# Altium footprint library Connector_PinHeader_1.00mm.PcbLib: 278 footprints (part 13 of 18)
Each footprint in its own frame and in the unit in brackets; x right, y up, seen from the top. Pads: shape width x height; smd on the part's side, far side on the other; paste and mask are expansions set on the pad; w line width, h text height; cw(c..) or ccw(c..) is an arc to the next point about the centre after c.
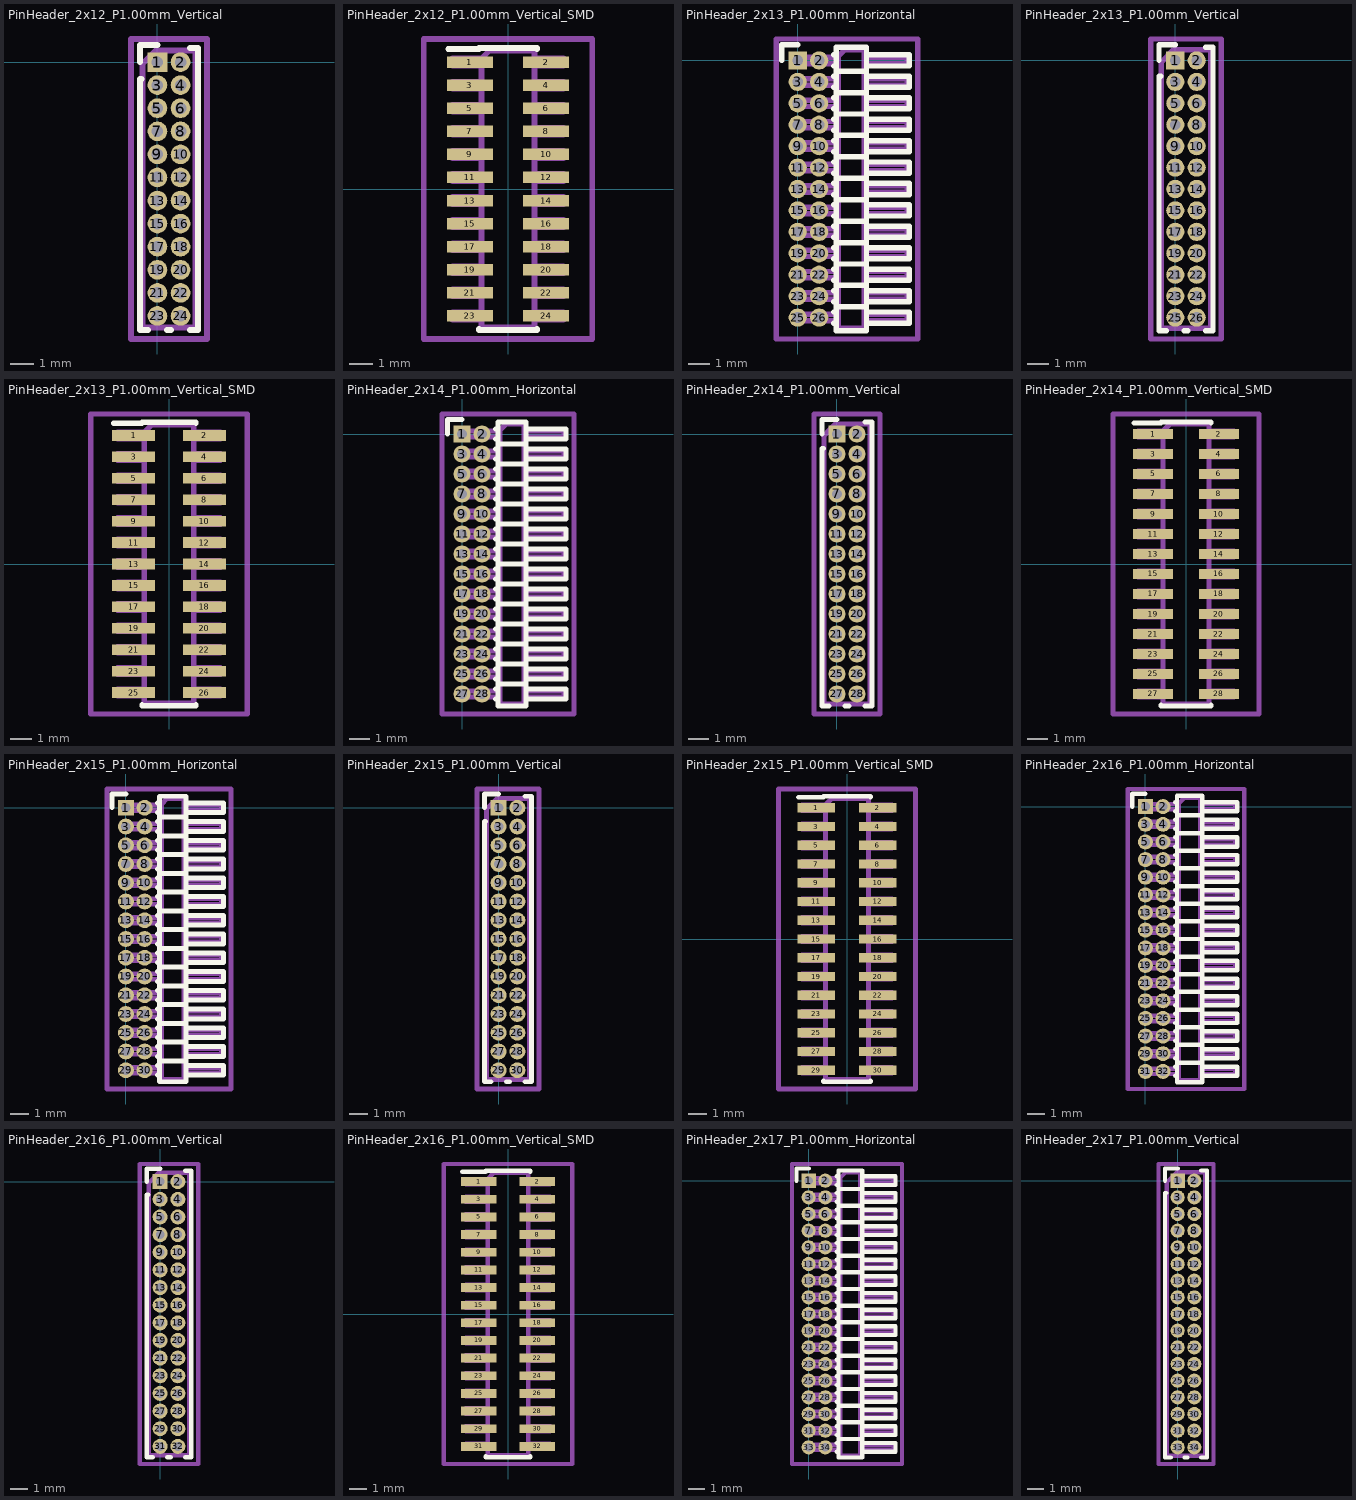
[diagram p12: the footprints below, top view; thin cyan lines are the x and y axes]

## PinHeader_2x12_P1.00mm_Vertical [mm]
pads (24):
  rect 0.85x0.85 hole 0.5: 1(0,0)
  round 0.85 hole 0.5: 2(1,0) 3(0,-1) 4(1,-1) 5(0,-2) 6(1,-2) 7(0,-3) 8(1,-3) 9(0,-4) 10(1,-4) 11(0,-5) 12(1,-5) 13(0,-6) 14(1,-6) 15(0,-7) 16(1,-7) 17(0,-8) 18(1,-8) 19(0,-9) 20(1,-9) 21(0,-10) 22(1,-10) 23(0,-11) 24(1,-11)
F.SilkS:
  lines w0.254: -0.76,0 -0.76,0.735 0,0.735 ; -0.686,-0.735 -0.76,-0.735 -0.76,-11.61 -0.41,-11.61 ; 0.41,-11.61 0.59,-11.61 ; 1.41,-11.61 1.76,-11.61 1.76,0.61 1.41,0.61
Top Assembly:
  lines w0.254: -0.65,-11.5 1.65,-11.5 1.65,0.5 -0.075,0.5 -0.65,-0.075 -0.65,-11.5
  text "'.Designator'" at 1.34,-9.547 h1
Top Courtyard:
  lines w0.254: -1.15,-12 2.15,-12 2.15,1 -1.15,1 -1.15,-12
Top Designator:
  text ".Designator" at -7.118,-6.008 h1.52

## PinHeader_2x12_P1.00mm_Vertical_SMD [mm]
pads (24):
  rect 2x0.5 smd: 1(-1.65,5.5) 2(1.65,5.5) 3(-1.65,4.5) 4(1.65,4.5) 5(-1.65,3.5) 6(1.65,3.5) 7(-1.65,2.5) 8(1.65,2.5) 9(-1.65,1.5) 10(1.65,1.5) 11(-1.65,0.5) 12(1.65,0.5) 13(-1.65,-0.5) 14(1.65,-0.5) 15(-1.65,-1.5) 16(1.65,-1.5) 17(-1.65,-2.5) 18(1.65,-2.5) 19(-1.65,-3.5) 20(1.65,-3.5) 21(-1.65,-4.5) 22(1.65,-4.5) 23(-1.65,-5.5) 24(1.65,-5.5)
F.SilkS:
  lines w0.254: -2.59,6.06 -1.26,6.06 -1.26,6.11 1.26,6.11 1.26,6.06 ; -1.26,-6.06 -1.26,-6.11 1.26,-6.11 1.26,-6.06
Top Assembly:
  lines w0.254: -1.15,-5.65 -2.4,-5.65 -2.4,-5.35 -1.15,-5.35 ; -1.15,-4.65 -2.4,-4.65 -2.4,-4.35 -1.15,-4.35 ; -1.15,-3.65 -2.4,-3.65 -2.4,-3.35 -1.15,-3.35 ; -1.15,-2.65 -2.4,-2.65 -2.4,-2.35 -1.15,-2.35 ; -1.15,-1.65 -2.4,-1.65 -2.4,-1.35 -1.15,-1.35 ; -1.15,-0.65 -2.4,-0.65 -2.4,-0.35 -1.15,-0.35 ; -1.15,0.35 -2.4,0.35 -2.4,0.65 -1.15,0.65 ; -1.15,1.35 -2.4,1.35 -2.4,1.65 -1.15,1.65 ; -1.15,2.35 -2.4,2.35 -2.4,2.65 -1.15,2.65 ; -1.15,3.35 -2.4,3.35 -2.4,3.65 -1.15,3.65 ; -1.15,4.35 -2.4,4.35 -2.4,4.65 -1.15,4.65 ; -1.15,5.35 -2.4,5.35 -2.4,5.65 -1.15,5.65 ; 1.15,-5.65 2.4,-5.65 2.4,-5.35 1.15,-5.35 ; 1.15,-4.65 2.4,-4.65 2.4,-4.35 1.15,-4.35 ; 1.15,-3.65 2.4,-3.65 2.4,-3.35 1.15,-3.35 ; 1.15,-2.65 2.4,-2.65 2.4,-2.35 1.15,-2.35 ; 1.15,-1.65 2.4,-1.65 2.4,-1.35 1.15,-1.35 ; 1.15,-0.65 2.4,-0.65 2.4,-0.35 1.15,-0.35 ; 1.15,0.35 2.4,0.35 2.4,0.65 1.15,0.65 ; 1.15,1.35 2.4,1.35 2.4,1.65 1.15,1.65 ; 1.15,2.35 2.4,2.35 2.4,2.65 1.15,2.65 ; 1.15,3.35 2.4,3.35 2.4,3.65 1.15,3.65 ; 1.15,4.35 2.4,4.35 2.4,4.65 1.15,4.65 ; 1.15,5.35 2.4,5.35 2.4,5.65 1.15,5.65 ; -1.15,5.65 -1.15,-6 1.15,-6 1.15,6 -0.8,6 -1.15,5.65
  text "'.Designator'" at 0.84,-4.047 h1
Top Courtyard:
  lines w0.254: -3.65,-6.5 3.65,-6.5 3.65,6.5 -3.65,6.5 -3.65,-6.5
Top Designator:
  text ".Designator" at -7.618,-0.508 h1.52

## PinHeader_2x13_P1.00mm_Horizontal [mm]
pads (26):
  rect 0.85x0.85 hole 0.5: 1(0,0)
  round 0.85 hole 0.5: 2(1,0) 3(0,-1) 4(1,-1) 5(0,-2) 6(1,-2) 7(0,-3) 8(1,-3) 9(0,-4) 10(1,-4) 11(0,-5) 12(1,-5) 13(0,-6) 14(1,-6) 15(0,-7) 16(1,-7) 17(0,-8) 18(1,-8) 19(0,-9) 20(1,-9) 21(0,-10) 22(1,-10) 23(0,-11) 24(1,-11) 25(0,-12) 26(1,-12)
F.SilkS:
  lines w0.254: -0.735,0 -0.735,0.735 0,0.735 ; 1.687,-12.26 1.79,-12.26 ; 1.687,-11.74 1.79,-11.74 ; 1.687,-11.26 1.79,-11.26 ; 1.687,-10.74 1.79,-10.74 ; 1.687,-10.26 1.79,-10.26 ; 1.687,-9.74 1.79,-9.74 ; 1.687,-9.26 1.79,-9.26 ; 1.687,-8.74 1.79,-8.74 ; 1.687,-8.26 1.79,-8.26 ; 1.687,-7.74 1.79,-7.74 ; 1.687,-7.26 1.79,-7.26 ; 1.687,-6.74 1.79,-6.74 ; 1.687,-6.26 1.79,-6.26 ; 1.687,-5.74 1.79,-5.74 ; 1.687,-5.26 1.79,-5.26 ; 1.687,-4.74 1.79,-4.74 ; 1.687,-4.26 1.79,-4.26 ; 1.687,-3.74 1.79,-3.74 ; 1.687,-3.26 1.79,-3.26 ; 1.687,-2.74 1.79,-2.74 ; 1.687,-2.26 1.79,-2.26 ; 1.687,-1.74 1.79,-1.74 ; 1.687,-1.26 1.79,-1.26 ; 1.687,-0.74 1.79,-0.74 ; 1.687,-0.26 1.79,-0.26 ; 1.687,0.26 1.79,0.26 ; 1.79,-11.5 3.21,-11.5 ; 1.79,-10.5 3.21,-10.5 ; 1.79,-9.5 3.21,-9.5 ; 1.79,-8.5 3.21,-8.5 ; 1.79,-7.5 3.21,-7.5 ; 1.79,-6.5 3.21,-6.5 ; 1.79,-5.5 3.21,-5.5 ; 1.79,-4.5 3.21,-4.5 ; 1.79,-3.5 3.21,-3.5 ; 1.79,-2.5 3.21,-2.5 ; 1.79,-1.5 3.21,-1.5 ; 1.79,-0.5 3.21,-0.5 ; 3.21,-12.26 5.21,-12.26 5.21,-11.74 3.21,-11.74 ; 3.21,-11.26 5.21,-11.26 5.21,-10.74 3.21,-10.74 ; 3.21,-10.26 5.21,-10.26 5.21,-9.74 3.21,-9.74 ; 3.21,-9.26 5.21,-9.26 5.21,-8.74 3.21,-8.74 ; 3.21,-8.26 5.21,-8.26 5.21,-7.74 3.21,-7.74 ; 3.21,-7.26 5.21,-7.26 5.21,-6.74 3.21,-6.74 ; 3.21,-6.26 5.21,-6.26 5.21,-5.74 3.21,-5.74 ; 3.21,-5.26 5.21,-5.26 5.21,-4.74 3.21,-4.74 ; 3.21,-4.26 5.21,-4.26 5.21,-3.74 3.21,-3.74 ; 3.21,-3.26 5.21,-3.26 5.21,-2.74 3.21,-2.74 ; 3.21,-2.26 5.21,-2.26 5.21,-1.74 3.21,-1.74 ; 3.21,-1.26 5.21,-1.26 5.21,-0.74 3.21,-0.74 ; 1.79,-12.61 3.21,-12.61 3.21,0.61 1.79,0.61 1.79,-12.61 ; 3.21,-0.26 5.21,-0.26 5.21,0.26 3.21,0.26 3.21,-0.26
Top Assembly:
  lines w0.254: 1.9,-12.15 -0.15,-12.15 -0.15,-11.85 1.9,-11.85 ; 1.9,-11.15 -0.15,-11.15 -0.15,-10.85 1.9,-10.85 ; 1.9,-10.15 -0.15,-10.15 -0.15,-9.85 1.9,-9.85 ; 1.9,-9.15 -0.15,-9.15 -0.15,-8.85 1.9,-8.85 ; 1.9,-8.15 -0.15,-8.15 -0.15,-7.85 1.9,-7.85 ; 1.9,-7.15 -0.15,-7.15 -0.15,-6.85 1.9,-6.85 ; 1.9,-6.15 -0.15,-6.15 -0.15,-5.85 1.9,-5.85 ; 1.9,-5.15 -0.15,-5.15 -0.15,-4.85 1.9,-4.85 ; 1.9,-4.15 -0.15,-4.15 -0.15,-3.85 1.9,-3.85 ; 1.9,-3.15 -0.15,-3.15 -0.15,-2.85 1.9,-2.85 ; 1.9,-2.15 -0.15,-2.15 -0.15,-1.85 1.9,-1.85 ; 1.9,-1.15 -0.15,-1.15 -0.15,-0.85 1.9,-0.85 ; 1.9,-0.15 -0.15,-0.15 -0.15,0.15 1.9,0.15 ; 3.1,-12.15 5.1,-12.15 5.1,-11.85 3.1,-11.85 ; 3.1,-11.15 5.1,-11.15 5.1,-10.85 3.1,-10.85 ; 3.1,-10.15 5.1,-10.15 5.1,-9.85 3.1,-9.85 ; 3.1,-9.15 5.1,-9.15 5.1,-8.85 3.1,-8.85 ; 3.1,-8.15 5.1,-8.15 5.1,-7.85 3.1,-7.85 ; 3.1,-7.15 5.1,-7.15 5.1,-6.85 3.1,-6.85 ; 3.1,-6.15 5.1,-6.15 5.1,-5.85 3.1,-5.85 ; 3.1,-5.15 5.1,-5.15 5.1,-4.85 3.1,-4.85 ; 3.1,-4.15 5.1,-4.15 5.1,-3.85 3.1,-3.85 ; 3.1,-3.15 5.1,-3.15 5.1,-2.85 3.1,-2.85 ; 3.1,-2.15 5.1,-2.15 5.1,-1.85 3.1,-1.85 ; 3.1,-1.15 5.1,-1.15 5.1,-0.85 3.1,-0.85 ; 3.1,-0.15 5.1,-0.15 5.1,0.15 3.1,0.15 ; 1.9,-12.5 3.1,-12.5 3.1,0.5 2.2,0.5 1.9,0.2 1.9,-12.5
  text "'.Designator'" at 3.105,-8.914 h0.72
Top Courtyard:
  lines w0.254: -1,-13 5.6,-13 5.6,1 -1,1 -1,-13
Top Designator:
  text ".Designator" at -5.318,-6.508 h1.52

## PinHeader_2x13_P1.00mm_Vertical [mm]
pads (26):
  rect 0.85x0.85 hole 0.5: 1(0,0)
  round 0.85 hole 0.5: 2(1,0) 3(0,-1) 4(1,-1) 5(0,-2) 6(1,-2) 7(0,-3) 8(1,-3) 9(0,-4) 10(1,-4) 11(0,-5) 12(1,-5) 13(0,-6) 14(1,-6) 15(0,-7) 16(1,-7) 17(0,-8) 18(1,-8) 19(0,-9) 20(1,-9) 21(0,-10) 22(1,-10) 23(0,-11) 24(1,-11) 25(0,-12) 26(1,-12)
F.SilkS:
  lines w0.254: -0.76,0 -0.76,0.735 0,0.735 ; -0.686,-0.735 -0.76,-0.735 -0.76,-12.61 -0.41,-12.61 ; 0.41,-12.61 0.59,-12.61 ; 1.41,-12.61 1.76,-12.61 1.76,0.61 1.41,0.61
Top Assembly:
  lines w0.254: -0.65,-12.5 1.65,-12.5 1.65,0.5 -0.075,0.5 -0.65,-0.075 -0.65,-12.5
  text "'.Designator'" at 1.34,-10.047 h1
Top Courtyard:
  lines w0.254: -1.15,-13 2.15,-13 2.15,1 -1.15,1 -1.15,-13
Top Designator:
  text ".Designator" at -7.118,-6.508 h1.52

## PinHeader_2x13_P1.00mm_Vertical_SMD [mm]
pads (26):
  rect 2x0.5 smd: 1(-1.65,6) 2(1.65,6) 3(-1.65,5) 4(1.65,5) 5(-1.65,4) 6(1.65,4) 7(-1.65,3) 8(1.65,3) 9(-1.65,2) 10(1.65,2) 11(-1.65,1) 12(1.65,1) 13(-1.65,0) 14(1.65,0) 15(-1.65,-1) 16(1.65,-1) 17(-1.65,-2) 18(1.65,-2) 19(-1.65,-3) 20(1.65,-3) 21(-1.65,-4) 22(1.65,-4) 23(-1.65,-5) 24(1.65,-5) 25(-1.65,-6) 26(1.65,-6)
F.SilkS:
  lines w0.254: -2.59,6.56 -1.26,6.56 -1.26,6.61 1.26,6.61 1.26,6.56 ; -1.26,-6.56 -1.26,-6.61 1.26,-6.61 1.26,-6.56
Top Assembly:
  lines w0.254: -1.15,-6.15 -2.4,-6.15 -2.4,-5.85 -1.15,-5.85 ; -1.15,-5.15 -2.4,-5.15 -2.4,-4.85 -1.15,-4.85 ; -1.15,-4.15 -2.4,-4.15 -2.4,-3.85 -1.15,-3.85 ; -1.15,-3.15 -2.4,-3.15 -2.4,-2.85 -1.15,-2.85 ; -1.15,-2.15 -2.4,-2.15 -2.4,-1.85 -1.15,-1.85 ; -1.15,-1.15 -2.4,-1.15 -2.4,-0.85 -1.15,-0.85 ; -1.15,-0.15 -2.4,-0.15 -2.4,0.15 -1.15,0.15 ; -1.15,0.85 -2.4,0.85 -2.4,1.15 -1.15,1.15 ; -1.15,1.85 -2.4,1.85 -2.4,2.15 -1.15,2.15 ; -1.15,2.85 -2.4,2.85 -2.4,3.15 -1.15,3.15 ; -1.15,3.85 -2.4,3.85 -2.4,4.15 -1.15,4.15 ; -1.15,4.85 -2.4,4.85 -2.4,5.15 -1.15,5.15 ; -1.15,5.85 -2.4,5.85 -2.4,6.15 -1.15,6.15 ; 1.15,-6.15 2.4,-6.15 2.4,-5.85 1.15,-5.85 ; 1.15,-5.15 2.4,-5.15 2.4,-4.85 1.15,-4.85 ; 1.15,-4.15 2.4,-4.15 2.4,-3.85 1.15,-3.85 ; 1.15,-3.15 2.4,-3.15 2.4,-2.85 1.15,-2.85 ; 1.15,-2.15 2.4,-2.15 2.4,-1.85 1.15,-1.85 ; 1.15,-1.15 2.4,-1.15 2.4,-0.85 1.15,-0.85 ; 1.15,-0.15 2.4,-0.15 2.4,0.15 1.15,0.15 ; 1.15,0.85 2.4,0.85 2.4,1.15 1.15,1.15 ; 1.15,1.85 2.4,1.85 2.4,2.15 1.15,2.15 ; 1.15,2.85 2.4,2.85 2.4,3.15 1.15,3.15 ; 1.15,3.85 2.4,3.85 2.4,4.15 1.15,4.15 ; 1.15,4.85 2.4,4.85 2.4,5.15 1.15,5.15 ; 1.15,5.85 2.4,5.85 2.4,6.15 1.15,6.15 ; -1.15,6.15 -1.15,-6.5 1.15,-6.5 1.15,6.5 -0.8,6.5 -1.15,6.15
  text "'.Designator'" at 0.84,-4.047 h1
Top Courtyard:
  lines w0.254: -3.65,-7 3.65,-7 3.65,7 -3.65,7 -3.65,-7
Top Designator:
  text ".Designator" at -7.618,-0.508 h1.52

## PinHeader_2x14_P1.00mm_Horizontal [mm]
pads (28):
  rect 0.85x0.85 hole 0.5: 1(0,0)
  round 0.85 hole 0.5: 2(1,0) 3(0,-1) 4(1,-1) 5(0,-2) 6(1,-2) 7(0,-3) 8(1,-3) 9(0,-4) 10(1,-4) 11(0,-5) 12(1,-5) 13(0,-6) 14(1,-6) 15(0,-7) 16(1,-7) 17(0,-8) 18(1,-8) 19(0,-9) 20(1,-9) 21(0,-10) 22(1,-10) 23(0,-11) 24(1,-11) 25(0,-12) 26(1,-12) 27(0,-13) 28(1,-13)
F.SilkS:
  lines w0.254: -0.735,0 -0.735,0.735 0,0.735 ; 1.687,-13.26 1.79,-13.26 ; 1.687,-12.74 1.79,-12.74 ; 1.687,-12.26 1.79,-12.26 ; 1.687,-11.74 1.79,-11.74 ; 1.687,-11.26 1.79,-11.26 ; 1.687,-10.74 1.79,-10.74 ; 1.687,-10.26 1.79,-10.26 ; 1.687,-9.74 1.79,-9.74 ; 1.687,-9.26 1.79,-9.26 ; 1.687,-8.74 1.79,-8.74 ; 1.687,-8.26 1.79,-8.26 ; 1.687,-7.74 1.79,-7.74 ; 1.687,-7.26 1.79,-7.26 ; 1.687,-6.74 1.79,-6.74 ; 1.687,-6.26 1.79,-6.26 ; 1.687,-5.74 1.79,-5.74 ; 1.687,-5.26 1.79,-5.26 ; 1.687,-4.74 1.79,-4.74 ; 1.687,-4.26 1.79,-4.26 ; 1.687,-3.74 1.79,-3.74 ; 1.687,-3.26 1.79,-3.26 ; 1.687,-2.74 1.79,-2.74 ; 1.687,-2.26 1.79,-2.26 ; 1.687,-1.74 1.79,-1.74 ; 1.687,-1.26 1.79,-1.26 ; 1.687,-0.74 1.79,-0.74 ; 1.687,-0.26 1.79,-0.26 ; 1.687,0.26 1.79,0.26 ; 1.79,-12.5 3.21,-12.5 ; 1.79,-11.5 3.21,-11.5 ; 1.79,-10.5 3.21,-10.5 ; 1.79,-9.5 3.21,-9.5 ; 1.79,-8.5 3.21,-8.5 ; 1.79,-7.5 3.21,-7.5 ; 1.79,-6.5 3.21,-6.5 ; 1.79,-5.5 3.21,-5.5 ; 1.79,-4.5 3.21,-4.5 ; 1.79,-3.5 3.21,-3.5 ; 1.79,-2.5 3.21,-2.5 ; 1.79,-1.5 3.21,-1.5 ; 1.79,-0.5 3.21,-0.5 ; 3.21,-13.26 5.21,-13.26 5.21,-12.74 3.21,-12.74 ; 3.21,-12.26 5.21,-12.26 5.21,-11.74 3.21,-11.74 ; 3.21,-11.26 5.21,-11.26 5.21,-10.74 3.21,-10.74 ; 3.21,-10.26 5.21,-10.26 5.21,-9.74 3.21,-9.74 ; 3.21,-9.26 5.21,-9.26 5.21,-8.74 3.21,-8.74 ; 3.21,-8.26 5.21,-8.26 5.21,-7.74 3.21,-7.74 ; 3.21,-7.26 5.21,-7.26 5.21,-6.74 3.21,-6.74 ; 3.21,-6.26 5.21,-6.26 5.21,-5.74 3.21,-5.74 ; 3.21,-5.26 5.21,-5.26 5.21,-4.74 3.21,-4.74 ; 3.21,-4.26 5.21,-4.26 5.21,-3.74 3.21,-3.74 ; 3.21,-3.26 5.21,-3.26 5.21,-2.74 3.21,-2.74 ; 3.21,-2.26 5.21,-2.26 5.21,-1.74 3.21,-1.74 ; 3.21,-1.26 5.21,-1.26 5.21,-0.74 3.21,-0.74 ; 1.79,-13.61 3.21,-13.61 3.21,0.61 1.79,0.61 1.79,-13.61 ; 3.21,-0.26 5.21,-0.26 5.21,0.26 3.21,0.26 3.21,-0.26
Top Assembly:
  lines w0.254: 1.9,-13.15 -0.15,-13.15 -0.15,-12.85 1.9,-12.85 ; 1.9,-12.15 -0.15,-12.15 -0.15,-11.85 1.9,-11.85 ; 1.9,-11.15 -0.15,-11.15 -0.15,-10.85 1.9,-10.85 ; 1.9,-10.15 -0.15,-10.15 -0.15,-9.85 1.9,-9.85 ; 1.9,-9.15 -0.15,-9.15 -0.15,-8.85 1.9,-8.85 ; 1.9,-8.15 -0.15,-8.15 -0.15,-7.85 1.9,-7.85 ; 1.9,-7.15 -0.15,-7.15 -0.15,-6.85 1.9,-6.85 ; 1.9,-6.15 -0.15,-6.15 -0.15,-5.85 1.9,-5.85 ; 1.9,-5.15 -0.15,-5.15 -0.15,-4.85 1.9,-4.85 ; 1.9,-4.15 -0.15,-4.15 -0.15,-3.85 1.9,-3.85 ; 1.9,-3.15 -0.15,-3.15 -0.15,-2.85 1.9,-2.85 ; 1.9,-2.15 -0.15,-2.15 -0.15,-1.85 1.9,-1.85 ; 1.9,-1.15 -0.15,-1.15 -0.15,-0.85 1.9,-0.85 ; 1.9,-0.15 -0.15,-0.15 -0.15,0.15 1.9,0.15 ; 3.1,-13.15 5.1,-13.15 5.1,-12.85 3.1,-12.85 ; 3.1,-12.15 5.1,-12.15 5.1,-11.85 3.1,-11.85 ; 3.1,-11.15 5.1,-11.15 5.1,-10.85 3.1,-10.85 ; 3.1,-10.15 5.1,-10.15 5.1,-9.85 3.1,-9.85 ; 3.1,-9.15 5.1,-9.15 5.1,-8.85 3.1,-8.85 ; 3.1,-8.15 5.1,-8.15 5.1,-7.85 3.1,-7.85 ; 3.1,-7.15 5.1,-7.15 5.1,-6.85 3.1,-6.85 ; 3.1,-6.15 5.1,-6.15 5.1,-5.85 3.1,-5.85 ; 3.1,-5.15 5.1,-5.15 5.1,-4.85 3.1,-4.85 ; 3.1,-4.15 5.1,-4.15 5.1,-3.85 3.1,-3.85 ; 3.1,-3.15 5.1,-3.15 5.1,-2.85 3.1,-2.85 ; 3.1,-2.15 5.1,-2.15 5.1,-1.85 3.1,-1.85 ; 3.1,-1.15 5.1,-1.15 5.1,-0.85 3.1,-0.85 ; 3.1,-0.15 5.1,-0.15 5.1,0.15 3.1,0.15 ; 1.9,-13.5 3.1,-13.5 3.1,0.5 2.2,0.5 1.9,0.2 1.9,-13.5
  text "'.Designator'" at 3.105,-9.414 h0.72
Top Courtyard:
  lines w0.254: -1,-14 5.6,-14 5.6,1 -1,1 -1,-14
Top Designator:
  text ".Designator" at -5.318,-7.008 h1.52

## PinHeader_2x14_P1.00mm_Vertical [mm]
pads (28):
  rect 0.85x0.85 hole 0.5: 1(0,0)
  round 0.85 hole 0.5: 2(1,0) 3(0,-1) 4(1,-1) 5(0,-2) 6(1,-2) 7(0,-3) 8(1,-3) 9(0,-4) 10(1,-4) 11(0,-5) 12(1,-5) 13(0,-6) 14(1,-6) 15(0,-7) 16(1,-7) 17(0,-8) 18(1,-8) 19(0,-9) 20(1,-9) 21(0,-10) 22(1,-10) 23(0,-11) 24(1,-11) 25(0,-12) 26(1,-12) 27(0,-13) 28(1,-13)
F.SilkS:
  lines w0.254: -0.76,0 -0.76,0.735 0,0.735 ; -0.686,-0.735 -0.76,-0.735 -0.76,-13.61 -0.41,-13.61 ; 0.41,-13.61 0.59,-13.61 ; 1.41,-13.61 1.76,-13.61 1.76,0.61 1.41,0.61
Top Assembly:
  lines w0.254: -0.65,-13.5 1.65,-13.5 1.65,0.5 -0.075,0.5 -0.65,-0.075 -0.65,-13.5
  text "'.Designator'" at 1.34,-10.547 h1
Top Courtyard:
  lines w0.254: -1.15,-14 2.15,-14 2.15,1 -1.15,1 -1.15,-14
Top Designator:
  text ".Designator" at -7.118,-7.008 h1.52

## PinHeader_2x14_P1.00mm_Vertical_SMD [mm]
pads (28):
  rect 2x0.5 smd: 1(-1.65,6.5) 2(1.65,6.5) 3(-1.65,5.5) 4(1.65,5.5) 5(-1.65,4.5) 6(1.65,4.5) 7(-1.65,3.5) 8(1.65,3.5) 9(-1.65,2.5) 10(1.65,2.5) 11(-1.65,1.5) 12(1.65,1.5) 13(-1.65,0.5) 14(1.65,0.5) 15(-1.65,-0.5) 16(1.65,-0.5) 17(-1.65,-1.5) 18(1.65,-1.5) 19(-1.65,-2.5) 20(1.65,-2.5) 21(-1.65,-3.5) 22(1.65,-3.5) 23(-1.65,-4.5) 24(1.65,-4.5) 25(-1.65,-5.5) 26(1.65,-5.5) 27(-1.65,-6.5) 28(1.65,-6.5)
F.SilkS:
  lines w0.254: -2.59,7.06 -1.26,7.06 -1.26,7.11 1.26,7.11 1.26,7.06 ; -1.26,-7.06 -1.26,-7.11 1.26,-7.11 1.26,-7.06
Top Assembly:
  lines w0.254: -1.15,-6.65 -2.4,-6.65 -2.4,-6.35 -1.15,-6.35 ; -1.15,-5.65 -2.4,-5.65 -2.4,-5.35 -1.15,-5.35 ; -1.15,-4.65 -2.4,-4.65 -2.4,-4.35 -1.15,-4.35 ; -1.15,-3.65 -2.4,-3.65 -2.4,-3.35 -1.15,-3.35 ; -1.15,-2.65 -2.4,-2.65 -2.4,-2.35 -1.15,-2.35 ; -1.15,-1.65 -2.4,-1.65 -2.4,-1.35 -1.15,-1.35 ; -1.15,-0.65 -2.4,-0.65 -2.4,-0.35 -1.15,-0.35 ; -1.15,0.35 -2.4,0.35 -2.4,0.65 -1.15,0.65 ; -1.15,1.35 -2.4,1.35 -2.4,1.65 -1.15,1.65 ; -1.15,2.35 -2.4,2.35 -2.4,2.65 -1.15,2.65 ; -1.15,3.35 -2.4,3.35 -2.4,3.65 -1.15,3.65 ; -1.15,4.35 -2.4,4.35 -2.4,4.65 -1.15,4.65 ; -1.15,5.35 -2.4,5.35 -2.4,5.65 -1.15,5.65 ; -1.15,6.35 -2.4,6.35 -2.4,6.65 -1.15,6.65 ; 1.15,-6.65 2.4,-6.65 2.4,-6.35 1.15,-6.35 ; 1.15,-5.65 2.4,-5.65 2.4,-5.35 1.15,-5.35 ; 1.15,-4.65 2.4,-4.65 2.4,-4.35 1.15,-4.35 ; 1.15,-3.65 2.4,-3.65 2.4,-3.35 1.15,-3.35 ; 1.15,-2.65 2.4,-2.65 2.4,-2.35 1.15,-2.35 ; 1.15,-1.65 2.4,-1.65 2.4,-1.35 1.15,-1.35 ; 1.15,-0.65 2.4,-0.65 2.4,-0.35 1.15,-0.35 ; 1.15,0.35 2.4,0.35 2.4,0.65 1.15,0.65 ; 1.15,1.35 2.4,1.35 2.4,1.65 1.15,1.65 ; 1.15,2.35 2.4,2.35 2.4,2.65 1.15,2.65 ; 1.15,3.35 2.4,3.35 2.4,3.65 1.15,3.65 ; 1.15,4.35 2.4,4.35 2.4,4.65 1.15,4.65 ; 1.15,5.35 2.4,5.35 2.4,5.65 1.15,5.65 ; 1.15,6.35 2.4,6.35 2.4,6.65 1.15,6.65 ; -1.15,6.65 -1.15,-7 1.15,-7 1.15,7 -0.8,7 -1.15,6.65
  text "'.Designator'" at 0.84,-4.047 h1
Top Courtyard:
  lines w0.254: -3.65,-7.5 3.65,-7.5 3.65,7.5 -3.65,7.5 -3.65,-7.5
Top Designator:
  text ".Designator" at -7.618,-0.508 h1.52

## PinHeader_2x15_P1.00mm_Horizontal [mm]
pads (30):
  rect 0.85x0.85 hole 0.5: 1(0,0)
  round 0.85 hole 0.5: 2(1,0) 3(0,-1) 4(1,-1) 5(0,-2) 6(1,-2) 7(0,-3) 8(1,-3) 9(0,-4) 10(1,-4) 11(0,-5) 12(1,-5) 13(0,-6) 14(1,-6) 15(0,-7) 16(1,-7) 17(0,-8) 18(1,-8) 19(0,-9) 20(1,-9) 21(0,-10) 22(1,-10) 23(0,-11) 24(1,-11) 25(0,-12) 26(1,-12) 27(0,-13) 28(1,-13) 29(0,-14) 30(1,-14)
F.SilkS:
  lines w0.254: -0.735,0 -0.735,0.735 0,0.735 ; 1.687,-14.26 1.79,-14.26 ; 1.687,-13.74 1.79,-13.74 ; 1.687,-13.26 1.79,-13.26 ; 1.687,-12.74 1.79,-12.74 ; 1.687,-12.26 1.79,-12.26 ; 1.687,-11.74 1.79,-11.74 ; 1.687,-11.26 1.79,-11.26 ; 1.687,-10.74 1.79,-10.74 ; 1.687,-10.26 1.79,-10.26 ; 1.687,-9.74 1.79,-9.74 ; 1.687,-9.26 1.79,-9.26 ; 1.687,-8.74 1.79,-8.74 ; 1.687,-8.26 1.79,-8.26 ; 1.687,-7.74 1.79,-7.74 ; 1.687,-7.26 1.79,-7.26 ; 1.687,-6.74 1.79,-6.74 ; 1.687,-6.26 1.79,-6.26 ; 1.687,-5.74 1.79,-5.74 ; 1.687,-5.26 1.79,-5.26 ; 1.687,-4.74 1.79,-4.74 ; 1.687,-4.26 1.79,-4.26 ; 1.687,-3.74 1.79,-3.74 ; 1.687,-3.26 1.79,-3.26 ; 1.687,-2.74 1.79,-2.74 ; 1.687,-2.26 1.79,-2.26 ; 1.687,-1.74 1.79,-1.74 ; 1.687,-1.26 1.79,-1.26 ; 1.687,-0.74 1.79,-0.74 ; 1.687,-0.26 1.79,-0.26 ; 1.687,0.26 1.79,0.26 ; 1.79,-13.5 3.21,-13.5 ; 1.79,-12.5 3.21,-12.5 ; 1.79,-11.5 3.21,-11.5 ; 1.79,-10.5 3.21,-10.5 ; 1.79,-9.5 3.21,-9.5 ; 1.79,-8.5 3.21,-8.5 ; 1.79,-7.5 3.21,-7.5 ; 1.79,-6.5 3.21,-6.5 ; 1.79,-5.5 3.21,-5.5 ; 1.79,-4.5 3.21,-4.5 ; 1.79,-3.5 3.21,-3.5 ; 1.79,-2.5 3.21,-2.5 ; 1.79,-1.5 3.21,-1.5 ; 1.79,-0.5 3.21,-0.5 ; 3.21,-14.26 5.21,-14.26 5.21,-13.74 3.21,-13.74 ; 3.21,-13.26 5.21,-13.26 5.21,-12.74 3.21,-12.74 ; 3.21,-12.26 5.21,-12.26 5.21,-11.74 3.21,-11.74 ; 3.21,-11.26 5.21,-11.26 5.21,-10.74 3.21,-10.74 ; 3.21,-10.26 5.21,-10.26 5.21,-9.74 3.21,-9.74 ; 3.21,-9.26 5.21,-9.26 5.21,-8.74 3.21,-8.74 ; 3.21,-8.26 5.21,-8.26 5.21,-7.74 3.21,-7.74 ; 3.21,-7.26 5.21,-7.26 5.21,-6.74 3.21,-6.74 ; 3.21,-6.26 5.21,-6.26 5.21,-5.74 3.21,-5.74 ; 3.21,-5.26 5.21,-5.26 5.21,-4.74 3.21,-4.74 ; 3.21,-4.26 5.21,-4.26 5.21,-3.74 3.21,-3.74 ; 3.21,-3.26 5.21,-3.26 5.21,-2.74 3.21,-2.74 ; 3.21,-2.26 5.21,-2.26 5.21,-1.74 3.21,-1.74 ; 3.21,-1.26 5.21,-1.26 5.21,-0.74 3.21,-0.74 ; 1.79,-14.61 3.21,-14.61 3.21,0.61 1.79,0.61 1.79,-14.61 ; 3.21,-0.26 5.21,-0.26 5.21,0.26 3.21,0.26 3.21,-0.26
Top Assembly:
  lines w0.254: 1.9,-14.15 -0.15,-14.15 -0.15,-13.85 1.9,-13.85 ; 1.9,-13.15 -0.15,-13.15 -0.15,-12.85 1.9,-12.85 ; 1.9,-12.15 -0.15,-12.15 -0.15,-11.85 1.9,-11.85 ; 1.9,-11.15 -0.15,-11.15 -0.15,-10.85 1.9,-10.85 ; 1.9,-10.15 -0.15,-10.15 -0.15,-9.85 1.9,-9.85 ; 1.9,-9.15 -0.15,-9.15 -0.15,-8.85 1.9,-8.85 ; 1.9,-8.15 -0.15,-8.15 -0.15,-7.85 1.9,-7.85 ; 1.9,-7.15 -0.15,-7.15 -0.15,-6.85 1.9,-6.85 ; 1.9,-6.15 -0.15,-6.15 -0.15,-5.85 1.9,-5.85 ; 1.9,-5.15 -0.15,-5.15 -0.15,-4.85 1.9,-4.85 ; 1.9,-4.15 -0.15,-4.15 -0.15,-3.85 1.9,-3.85 ; 1.9,-3.15 -0.15,-3.15 -0.15,-2.85 1.9,-2.85 ; 1.9,-2.15 -0.15,-2.15 -0.15,-1.85 1.9,-1.85 ; 1.9,-1.15 -0.15,-1.15 -0.15,-0.85 1.9,-0.85 ; 1.9,-0.15 -0.15,-0.15 -0.15,0.15 1.9,0.15 ; 3.1,-14.15 5.1,-14.15 5.1,-13.85 3.1,-13.85 ; 3.1,-13.15 5.1,-13.15 5.1,-12.85 3.1,-12.85 ; 3.1,-12.15 5.1,-12.15 5.1,-11.85 3.1,-11.85 ; 3.1,-11.15 5.1,-11.15 5.1,-10.85 3.1,-10.85 ; 3.1,-10.15 5.1,-10.15 5.1,-9.85 3.1,-9.85 ; 3.1,-9.15 5.1,-9.15 5.1,-8.85 3.1,-8.85 ; 3.1,-8.15 5.1,-8.15 5.1,-7.85 3.1,-7.85 ; 3.1,-7.15 5.1,-7.15 5.1,-6.85 3.1,-6.85 ; 3.1,-6.15 5.1,-6.15 5.1,-5.85 3.1,-5.85 ; 3.1,-5.15 5.1,-5.15 5.1,-4.85 3.1,-4.85 ; 3.1,-4.15 5.1,-4.15 5.1,-3.85 3.1,-3.85 ; 3.1,-3.15 5.1,-3.15 5.1,-2.85 3.1,-2.85 ; 3.1,-2.15 5.1,-2.15 5.1,-1.85 3.1,-1.85 ; 3.1,-1.15 5.1,-1.15 5.1,-0.85 3.1,-0.85 ; 3.1,-0.15 5.1,-0.15 5.1,0.15 3.1,0.15 ; 1.9,-14.5 3.1,-14.5 3.1,0.5 2.2,0.5 1.9,0.2 1.9,-14.5
  text "'.Designator'" at 3.105,-9.914 h0.72
Top Courtyard:
  lines w0.254: -1,-15 5.6,-15 5.6,1 -1,1 -1,-15
Top Designator:
  text ".Designator" at -5.318,-7.508 h1.52

## PinHeader_2x15_P1.00mm_Vertical [mm]
pads (30):
  rect 0.85x0.85 hole 0.5: 1(0,0)
  round 0.85 hole 0.5: 2(1,0) 3(0,-1) 4(1,-1) 5(0,-2) 6(1,-2) 7(0,-3) 8(1,-3) 9(0,-4) 10(1,-4) 11(0,-5) 12(1,-5) 13(0,-6) 14(1,-6) 15(0,-7) 16(1,-7) 17(0,-8) 18(1,-8) 19(0,-9) 20(1,-9) 21(0,-10) 22(1,-10) 23(0,-11) 24(1,-11) 25(0,-12) 26(1,-12) 27(0,-13) 28(1,-13) 29(0,-14) 30(1,-14)
F.SilkS:
  lines w0.254: -0.76,0 -0.76,0.735 0,0.735 ; -0.686,-0.735 -0.76,-0.735 -0.76,-14.61 -0.41,-14.61 ; 0.41,-14.61 0.59,-14.61 ; 1.41,-14.61 1.76,-14.61 1.76,0.61 1.41,0.61
Top Assembly:
  lines w0.254: -0.65,-14.5 1.65,-14.5 1.65,0.5 -0.075,0.5 -0.65,-0.075 -0.65,-14.5
  text "'.Designator'" at 1.34,-11.047 h1
Top Courtyard:
  lines w0.254: -1.15,-15 2.15,-15 2.15,1 -1.15,1 -1.15,-15
Top Designator:
  text ".Designator" at -7.118,-7.508 h1.52

## PinHeader_2x15_P1.00mm_Vertical_SMD [mm]
pads (30):
  rect 2x0.5 smd: 1(-1.65,7) 2(1.65,7) 3(-1.65,6) 4(1.65,6) 5(-1.65,5) 6(1.65,5) 7(-1.65,4) 8(1.65,4) 9(-1.65,3) 10(1.65,3) 11(-1.65,2) 12(1.65,2) 13(-1.65,1) 14(1.65,1) 15(-1.65,0) 16(1.65,0) 17(-1.65,-1) 18(1.65,-1) 19(-1.65,-2) 20(1.65,-2) 21(-1.65,-3) 22(1.65,-3) 23(-1.65,-4) 24(1.65,-4) 25(-1.65,-5) 26(1.65,-5) 27(-1.65,-6) 28(1.65,-6) 29(-1.65,-7) 30(1.65,-7)
F.SilkS:
  lines w0.254: -2.59,7.56 -1.26,7.56 -1.26,7.61 1.26,7.61 1.26,7.56 ; -1.26,-7.56 -1.26,-7.61 1.26,-7.61 1.26,-7.56
Top Assembly:
  lines w0.254: -1.15,-7.15 -2.4,-7.15 -2.4,-6.85 -1.15,-6.85 ; -1.15,-6.15 -2.4,-6.15 -2.4,-5.85 -1.15,-5.85 ; -1.15,-5.15 -2.4,-5.15 -2.4,-4.85 -1.15,-4.85 ; -1.15,-4.15 -2.4,-4.15 -2.4,-3.85 -1.15,-3.85 ; -1.15,-3.15 -2.4,-3.15 -2.4,-2.85 -1.15,-2.85 ; -1.15,-2.15 -2.4,-2.15 -2.4,-1.85 -1.15,-1.85 ; -1.15,-1.15 -2.4,-1.15 -2.4,-0.85 -1.15,-0.85 ; -1.15,-0.15 -2.4,-0.15 -2.4,0.15 -1.15,0.15 ; -1.15,0.85 -2.4,0.85 -2.4,1.15 -1.15,1.15 ; -1.15,1.85 -2.4,1.85 -2.4,2.15 -1.15,2.15 ; -1.15,2.85 -2.4,2.85 -2.4,3.15 -1.15,3.15 ; -1.15,3.85 -2.4,3.85 -2.4,4.15 -1.15,4.15 ; -1.15,4.85 -2.4,4.85 -2.4,5.15 -1.15,5.15 ; -1.15,5.85 -2.4,5.85 -2.4,6.15 -1.15,6.15 ; -1.15,6.85 -2.4,6.85 -2.4,7.15 -1.15,7.15 ; 1.15,-7.15 2.4,-7.15 2.4,-6.85 1.15,-6.85 ; 1.15,-6.15 2.4,-6.15 2.4,-5.85 1.15,-5.85 ; 1.15,-5.15 2.4,-5.15 2.4,-4.85 1.15,-4.85 ; 1.15,-4.15 2.4,-4.15 2.4,-3.85 1.15,-3.85 ; 1.15,-3.15 2.4,-3.15 2.4,-2.85 1.15,-2.85 ; 1.15,-2.15 2.4,-2.15 2.4,-1.85 1.15,-1.85 ; 1.15,-1.15 2.4,-1.15 2.4,-0.85 1.15,-0.85 ; 1.15,-0.15 2.4,-0.15 2.4,0.15 1.15,0.15 ; 1.15,0.85 2.4,0.85 2.4,1.15 1.15,1.15 ; 1.15,1.85 2.4,1.85 2.4,2.15 1.15,2.15 ; 1.15,2.85 2.4,2.85 2.4,3.15 1.15,3.15 ; 1.15,3.85 2.4,3.85 2.4,4.15 1.15,4.15 ; 1.15,4.85 2.4,4.85 2.4,5.15 1.15,5.15 ; 1.15,5.85 2.4,5.85 2.4,6.15 1.15,6.15 ; 1.15,6.85 2.4,6.85 2.4,7.15 1.15,7.15 ; -1.15,7.15 -1.15,-7.5 1.15,-7.5 1.15,7.5 -0.8,7.5 -1.15,7.15
  text "'.Designator'" at 0.84,-4.047 h1
Top Courtyard:
  lines w0.254: -3.65,-8 3.65,-8 3.65,8 -3.65,8 -3.65,-8
Top Designator:
  text ".Designator" at -7.618,-0.508 h1.52

## PinHeader_2x16_P1.00mm_Horizontal [mm]
pads (32):
  rect 0.85x0.85 hole 0.5: 1(0,0)
  round 0.85 hole 0.5: 2(1,0) 3(0,-1) 4(1,-1) 5(0,-2) 6(1,-2) 7(0,-3) 8(1,-3) 9(0,-4) 10(1,-4) 11(0,-5) 12(1,-5) 13(0,-6) 14(1,-6) 15(0,-7) 16(1,-7) 17(0,-8) 18(1,-8) 19(0,-9) 20(1,-9) 21(0,-10) 22(1,-10) 23(0,-11) 24(1,-11) 25(0,-12) 26(1,-12) 27(0,-13) 28(1,-13) 29(0,-14) 30(1,-14) 31(0,-15) 32(1,-15)
F.SilkS:
  lines w0.254: -0.735,0 -0.735,0.735 0,0.735 ; 1.687,-15.26 1.79,-15.26 ; 1.687,-14.74 1.79,-14.74 ; 1.687,-14.26 1.79,-14.26 ; 1.687,-13.74 1.79,-13.74 ; 1.687,-13.26 1.79,-13.26 ; 1.687,-12.74 1.79,-12.74 ; 1.687,-12.26 1.79,-12.26 ; 1.687,-11.74 1.79,-11.74 ; 1.687,-11.26 1.79,-11.26 ; 1.687,-10.74 1.79,-10.74 ; 1.687,-10.26 1.79,-10.26 ; 1.687,-9.74 1.79,-9.74 ; 1.687,-9.26 1.79,-9.26 ; 1.687,-8.74 1.79,-8.74 ; 1.687,-8.26 1.79,-8.26 ; 1.687,-7.74 1.79,-7.74 ; 1.687,-7.26 1.79,-7.26 ; 1.687,-6.74 1.79,-6.74 ; 1.687,-6.26 1.79,-6.26 ; 1.687,-5.74 1.79,-5.74 ; 1.687,-5.26 1.79,-5.26 ; 1.687,-4.74 1.79,-4.74 ; 1.687,-4.26 1.79,-4.26 ; 1.687,-3.74 1.79,-3.74 ; 1.687,-3.26 1.79,-3.26 ; 1.687,-2.74 1.79,-2.74 ; 1.687,-2.26 1.79,-2.26 ; 1.687,-1.74 1.79,-1.74 ; 1.687,-1.26 1.79,-1.26 ; 1.687,-0.74 1.79,-0.74 ; 1.687,-0.26 1.79,-0.26 ; 1.687,0.26 1.79,0.26 ; 1.79,-14.5 3.21,-14.5 ; 1.79,-13.5 3.21,-13.5 ; 1.79,-12.5 3.21,-12.5 ; 1.79,-11.5 3.21,-11.5 ; 1.79,-10.5 3.21,-10.5 ; 1.79,-9.5 3.21,-9.5 ; 1.79,-8.5 3.21,-8.5 ; 1.79,-7.5 3.21,-7.5 ; 1.79,-6.5 3.21,-6.5 ; 1.79,-5.5 3.21,-5.5 ; 1.79,-4.5 3.21,-4.5 ; 1.79,-3.5 3.21,-3.5 ; 1.79,-2.5 3.21,-2.5 ; 1.79,-1.5 3.21,-1.5 ; 1.79,-0.5 3.21,-0.5 ; 3.21,-15.26 5.21,-15.26 5.21,-14.74 3.21,-14.74 ; 3.21,-14.26 5.21,-14.26 5.21,-13.74 3.21,-13.74 ; 3.21,-13.26 5.21,-13.26 5.21,-12.74 3.21,-12.74 ; 3.21,-12.26 5.21,-12.26 5.21,-11.74 3.21,-11.74 ; 3.21,-11.26 5.21,-11.26 5.21,-10.74 3.21,-10.74 ; 3.21,-10.26 5.21,-10.26 5.21,-9.74 3.21,-9.74 ; 3.21,-9.26 5.21,-9.26 5.21,-8.74 3.21,-8.74 ; 3.21,-8.26 5.21,-8.26 5.21,-7.74 3.21,-7.74 ; 3.21,-7.26 5.21,-7.26 5.21,-6.74 3.21,-6.74 ; 3.21,-6.26 5.21,-6.26 5.21,-5.74 3.21,-5.74 ; 3.21,-5.26 5.21,-5.26 5.21,-4.74 3.21,-4.74 ; 3.21,-4.26 5.21,-4.26 5.21,-3.74 3.21,-3.74 ; 3.21,-3.26 5.21,-3.26 5.21,-2.74 3.21,-2.74 ; 3.21,-2.26 5.21,-2.26 5.21,-1.74 3.21,-1.74 ; 3.21,-1.26 5.21,-1.26 5.21,-0.74 3.21,-0.74 ; 1.79,-15.61 3.21,-15.61 3.21,0.61 1.79,0.61 1.79,-15.61 ; 3.21,-0.26 5.21,-0.26 5.21,0.26 3.21,0.26 3.21,-0.26
Top Assembly:
  lines w0.254: 1.9,-15.15 -0.15,-15.15 -0.15,-14.85 1.9,-14.85 ; 1.9,-14.15 -0.15,-14.15 -0.15,-13.85 1.9,-13.85 ; 1.9,-13.15 -0.15,-13.15 -0.15,-12.85 1.9,-12.85 ; 1.9,-12.15 -0.15,-12.15 -0.15,-11.85 1.9,-11.85 ; 1.9,-11.15 -0.15,-11.15 -0.15,-10.85 1.9,-10.85 ; 1.9,-10.15 -0.15,-10.15 -0.15,-9.85 1.9,-9.85 ; 1.9,-9.15 -0.15,-9.15 -0.15,-8.85 1.9,-8.85 ; 1.9,-8.15 -0.15,-8.15 -0.15,-7.85 1.9,-7.85 ; 1.9,-7.15 -0.15,-7.15 -0.15,-6.85 1.9,-6.85 ; 1.9,-6.15 -0.15,-6.15 -0.15,-5.85 1.9,-5.85 ; 1.9,-5.15 -0.15,-5.15 -0.15,-4.85 1.9,-4.85 ; 1.9,-4.15 -0.15,-4.15 -0.15,-3.85 1.9,-3.85 ; 1.9,-3.15 -0.15,-3.15 -0.15,-2.85 1.9,-2.85 ; 1.9,-2.15 -0.15,-2.15 -0.15,-1.85 1.9,-1.85 ; 1.9,-1.15 -0.15,-1.15 -0.15,-0.85 1.9,-0.85 ; 1.9,-0.15 -0.15,-0.15 -0.15,0.15 1.9,0.15 ; 3.1,-15.15 5.1,-15.15 5.1,-14.85 3.1,-14.85 ; 3.1,-14.15 5.1,-14.15 5.1,-13.85 3.1,-13.85 ; 3.1,-13.15 5.1,-13.15 5.1,-12.85 3.1,-12.85 ; 3.1,-12.15 5.1,-12.15 5.1,-11.85 3.1,-11.85 ; 3.1,-11.15 5.1,-11.15 5.1,-10.85 3.1,-10.85 ; 3.1,-10.15 5.1,-10.15 5.1,-9.85 3.1,-9.85 ; 3.1,-9.15 5.1,-9.15 5.1,-8.85 3.1,-8.85 ; 3.1,-8.15 5.1,-8.15 5.1,-7.85 3.1,-7.85 ; 3.1,-7.15 5.1,-7.15 5.1,-6.85 3.1,-6.85 ; 3.1,-6.15 5.1,-6.15 5.1,-5.85 3.1,-5.85 ; 3.1,-5.15 5.1,-5.15 5.1,-4.85 3.1,-4.85 ; 3.1,-4.15 5.1,-4.15 5.1,-3.85 3.1,-3.85 ; 3.1,-3.15 5.1,-3.15 5.1,-2.85 3.1,-2.85 ; 3.1,-2.15 5.1,-2.15 5.1,-1.85 3.1,-1.85 ; 3.1,-1.15 5.1,-1.15 5.1,-0.85 3.1,-0.85 ; 3.1,-0.15 5.1,-0.15 5.1,0.15 3.1,0.15 ; 1.9,-15.5 3.1,-15.5 3.1,0.5 2.2,0.5 1.9,0.2 1.9,-15.5
  text "'.Designator'" at 3.105,-10.414 h0.72
Top Courtyard:
  lines w0.254: -1,-16 5.6,-16 5.6,1 -1,1 -1,-16
Top Designator:
  text ".Designator" at -5.318,-8.008 h1.52

## PinHeader_2x16_P1.00mm_Vertical [mm]
pads (32):
  rect 0.85x0.85 hole 0.5: 1(0,0)
  round 0.85 hole 0.5: 2(1,0) 3(0,-1) 4(1,-1) 5(0,-2) 6(1,-2) 7(0,-3) 8(1,-3) 9(0,-4) 10(1,-4) 11(0,-5) 12(1,-5) 13(0,-6) 14(1,-6) 15(0,-7) 16(1,-7) 17(0,-8) 18(1,-8) 19(0,-9) 20(1,-9) 21(0,-10) 22(1,-10) 23(0,-11) 24(1,-11) 25(0,-12) 26(1,-12) 27(0,-13) 28(1,-13) 29(0,-14) 30(1,-14) 31(0,-15) 32(1,-15)
F.SilkS:
  lines w0.254: -0.76,0 -0.76,0.735 0,0.735 ; -0.686,-0.735 -0.76,-0.735 -0.76,-15.61 -0.41,-15.61 ; 0.41,-15.61 0.59,-15.61 ; 1.41,-15.61 1.76,-15.61 1.76,0.61 1.41,0.61
Top Assembly:
  lines w0.254: -0.65,-15.5 1.65,-15.5 1.65,0.5 -0.075,0.5 -0.65,-0.075 -0.65,-15.5
  text "'.Designator'" at 1.34,-11.547 h1
Top Courtyard:
  lines w0.254: -1.15,-16 2.15,-16 2.15,1 -1.15,1 -1.15,-16
Top Designator:
  text ".Designator" at -7.118,-8.008 h1.52

## PinHeader_2x16_P1.00mm_Vertical_SMD [mm]
pads (32):
  rect 2x0.5 smd: 1(-1.65,7.5) 2(1.65,7.5) 3(-1.65,6.5) 4(1.65,6.5) 5(-1.65,5.5) 6(1.65,5.5) 7(-1.65,4.5) 8(1.65,4.5) 9(-1.65,3.5) 10(1.65,3.5) 11(-1.65,2.5) 12(1.65,2.5) 13(-1.65,1.5) 14(1.65,1.5) 15(-1.65,0.5) 16(1.65,0.5) 17(-1.65,-0.5) 18(1.65,-0.5) 19(-1.65,-1.5) 20(1.65,-1.5) 21(-1.65,-2.5) 22(1.65,-2.5) 23(-1.65,-3.5) 24(1.65,-3.5) 25(-1.65,-4.5) 26(1.65,-4.5) 27(-1.65,-5.5) 28(1.65,-5.5) 29(-1.65,-6.5) 30(1.65,-6.5) 31(-1.65,-7.5) 32(1.65,-7.5)
F.SilkS:
  lines w0.254: -2.59,8.06 -1.26,8.06 -1.26,8.11 1.26,8.11 1.26,8.06 ; -1.26,-8.06 -1.26,-8.11 1.26,-8.11 1.26,-8.06
Top Assembly:
  lines w0.254: -1.15,-7.65 -2.4,-7.65 -2.4,-7.35 -1.15,-7.35 ; -1.15,-6.65 -2.4,-6.65 -2.4,-6.35 -1.15,-6.35 ; -1.15,-5.65 -2.4,-5.65 -2.4,-5.35 -1.15,-5.35 ; -1.15,-4.65 -2.4,-4.65 -2.4,-4.35 -1.15,-4.35 ; -1.15,-3.65 -2.4,-3.65 -2.4,-3.35 -1.15,-3.35 ; -1.15,-2.65 -2.4,-2.65 -2.4,-2.35 -1.15,-2.35 ; -1.15,-1.65 -2.4,-1.65 -2.4,-1.35 -1.15,-1.35 ; -1.15,-0.65 -2.4,-0.65 -2.4,-0.35 -1.15,-0.35 ; -1.15,0.35 -2.4,0.35 -2.4,0.65 -1.15,0.65 ; -1.15,1.35 -2.4,1.35 -2.4,1.65 -1.15,1.65 ; -1.15,2.35 -2.4,2.35 -2.4,2.65 -1.15,2.65 ; -1.15,3.35 -2.4,3.35 -2.4,3.65 -1.15,3.65 ; -1.15,4.35 -2.4,4.35 -2.4,4.65 -1.15,4.65 ; -1.15,5.35 -2.4,5.35 -2.4,5.65 -1.15,5.65 ; -1.15,6.35 -2.4,6.35 -2.4,6.65 -1.15,6.65 ; -1.15,7.35 -2.4,7.35 -2.4,7.65 -1.15,7.65 ; 1.15,-7.65 2.4,-7.65 2.4,-7.35 1.15,-7.35 ; 1.15,-6.65 2.4,-6.65 2.4,-6.35 1.15,-6.35 ; 1.15,-5.65 2.4,-5.65 2.4,-5.35 1.15,-5.35 ; 1.15,-4.65 2.4,-4.65 2.4,-4.35 1.15,-4.35 ; 1.15,-3.65 2.4,-3.65 2.4,-3.35 1.15,-3.35 ; 1.15,-2.65 2.4,-2.65 2.4,-2.35 1.15,-2.35 ; 1.15,-1.65 2.4,-1.65 2.4,-1.35 1.15,-1.35 ; 1.15,-0.65 2.4,-0.65 2.4,-0.35 1.15,-0.35 ; 1.15,0.35 2.4,0.35 2.4,0.65 1.15,0.65 ; 1.15,1.35 2.4,1.35 2.4,1.65 1.15,1.65 ; 1.15,2.35 2.4,2.35 2.4,2.65 1.15,2.65 ; 1.15,3.35 2.4,3.35 2.4,3.65 1.15,3.65 ; 1.15,4.35 2.4,4.35 2.4,4.65 1.15,4.65 ; 1.15,5.35 2.4,5.35 2.4,5.65 1.15,5.65 ; 1.15,6.35 2.4,6.35 2.4,6.65 1.15,6.65 ; 1.15,7.35 2.4,7.35 2.4,7.65 1.15,7.65 ; -1.15,7.65 -1.15,-8 1.15,-8 1.15,8 -0.8,8 -1.15,7.65
  text "'.Designator'" at 0.84,-4.047 h1
Top Courtyard:
  lines w0.254: -3.65,-8.5 3.65,-8.5 3.65,8.5 -3.65,8.5 -3.65,-8.5
Top Designator:
  text ".Designator" at -7.618,-0.508 h1.52

## PinHeader_2x17_P1.00mm_Horizontal [mm]
pads (34):
  rect 0.85x0.85 hole 0.5: 1(0,0)
  round 0.85 hole 0.5: 2(1,0) 3(0,-1) 4(1,-1) 5(0,-2) 6(1,-2) 7(0,-3) 8(1,-3) 9(0,-4) 10(1,-4) 11(0,-5) 12(1,-5) 13(0,-6) 14(1,-6) 15(0,-7) 16(1,-7) 17(0,-8) 18(1,-8) 19(0,-9) 20(1,-9) 21(0,-10) 22(1,-10) 23(0,-11) 24(1,-11) 25(0,-12) 26(1,-12) 27(0,-13) 28(1,-13) 29(0,-14) 30(1,-14) 31(0,-15) 32(1,-15) 33(0,-16) 34(1,-16)
F.SilkS:
  lines w0.254: -0.735,0 -0.735,0.735 0,0.735 ; 1.687,-16.26 1.79,-16.26 ; 1.687,-15.74 1.79,-15.74 ; 1.687,-15.26 1.79,-15.26 ; 1.687,-14.74 1.79,-14.74 ; 1.687,-14.26 1.79,-14.26 ; 1.687,-13.74 1.79,-13.74 ; 1.687,-13.26 1.79,-13.26 ; 1.687,-12.74 1.79,-12.74 ; 1.687,-12.26 1.79,-12.26 ; 1.687,-11.74 1.79,-11.74 ; 1.687,-11.26 1.79,-11.26 ; 1.687,-10.74 1.79,-10.74 ; 1.687,-10.26 1.79,-10.26 ; 1.687,-9.74 1.79,-9.74 ; 1.687,-9.26 1.79,-9.26 ; 1.687,-8.74 1.79,-8.74 ; 1.687,-8.26 1.79,-8.26 ; 1.687,-7.74 1.79,-7.74 ; 1.687,-7.26 1.79,-7.26 ; 1.687,-6.74 1.79,-6.74 ; 1.687,-6.26 1.79,-6.26 ; 1.687,-5.74 1.79,-5.74 ; 1.687,-5.26 1.79,-5.26 ; 1.687,-4.74 1.79,-4.74 ; 1.687,-4.26 1.79,-4.26 ; 1.687,-3.74 1.79,-3.74 ; 1.687,-3.26 1.79,-3.26 ; 1.687,-2.74 1.79,-2.74 ; 1.687,-2.26 1.79,-2.26 ; 1.687,-1.74 1.79,-1.74 ; 1.687,-1.26 1.79,-1.26 ; 1.687,-0.74 1.79,-0.74 ; 1.687,-0.26 1.79,-0.26 ; 1.687,0.26 1.79,0.26 ; 1.79,-15.5 3.21,-15.5 ; 1.79,-14.5 3.21,-14.5 ; 1.79,-13.5 3.21,-13.5 ; 1.79,-12.5 3.21,-12.5 ; 1.79,-11.5 3.21,-11.5 ; 1.79,-10.5 3.21,-10.5 ; 1.79,-9.5 3.21,-9.5 ; 1.79,-8.5 3.21,-8.5 ; 1.79,-7.5 3.21,-7.5 ; 1.79,-6.5 3.21,-6.5 ; 1.79,-5.5 3.21,-5.5 ; 1.79,-4.5 3.21,-4.5 ; 1.79,-3.5 3.21,-3.5 ; 1.79,-2.5 3.21,-2.5 ; 1.79,-1.5 3.21,-1.5 ; 1.79,-0.5 3.21,-0.5 ; 3.21,-16.26 5.21,-16.26 5.21,-15.74 3.21,-15.74 ; 3.21,-15.26 5.21,-15.26 5.21,-14.74 3.21,-14.74 ; 3.21,-14.26 5.21,-14.26 5.21,-13.74 3.21,-13.74 ; 3.21,-13.26 5.21,-13.26 5.21,-12.74 3.21,-12.74 ; 3.21,-12.26 5.21,-12.26 5.21,-11.74 3.21,-11.74 ; 3.21,-11.26 5.21,-11.26 5.21,-10.74 3.21,-10.74 ; 3.21,-10.26 5.21,-10.26 5.21,-9.74 3.21,-9.74 ; 3.21,-9.26 5.21,-9.26 5.21,-8.74 3.21,-8.74 ; 3.21,-8.26 5.21,-8.26 5.21,-7.74 3.21,-7.74 ; 3.21,-7.26 5.21,-7.26 5.21,-6.74 3.21,-6.74 ; 3.21,-6.26 5.21,-6.26 5.21,-5.74 3.21,-5.74 ; 3.21,-5.26 5.21,-5.26 5.21,-4.74 3.21,-4.74 ; 3.21,-4.26 5.21,-4.26 5.21,-3.74 3.21,-3.74 ; 3.21,-3.26 5.21,-3.26 5.21,-2.74 3.21,-2.74 ; 3.21,-2.26 5.21,-2.26 5.21,-1.74 3.21,-1.74 ; 3.21,-1.26 5.21,-1.26 5.21,-0.74 3.21,-0.74 ; 1.79,-16.61 3.21,-16.61 3.21,0.61 1.79,0.61 1.79,-16.61 ; 3.21,-0.26 5.21,-0.26 5.21,0.26 3.21,0.26 3.21,-0.26
Top Assembly:
  lines w0.254: 1.9,-16.15 -0.15,-16.15 -0.15,-15.85 1.9,-15.85 ; 1.9,-15.15 -0.15,-15.15 -0.15,-14.85 1.9,-14.85 ; 1.9,-14.15 -0.15,-14.15 -0.15,-13.85 1.9,-13.85 ; 1.9,-13.15 -0.15,-13.15 -0.15,-12.85 1.9,-12.85 ; 1.9,-12.15 -0.15,-12.15 -0.15,-11.85 1.9,-11.85 ; 1.9,-11.15 -0.15,-11.15 -0.15,-10.85 1.9,-10.85 ; 1.9,-10.15 -0.15,-10.15 -0.15,-9.85 1.9,-9.85 ; 1.9,-9.15 -0.15,-9.15 -0.15,-8.85 1.9,-8.85 ; 1.9,-8.15 -0.15,-8.15 -0.15,-7.85 1.9,-7.85 ; 1.9,-7.15 -0.15,-7.15 -0.15,-6.85 1.9,-6.85 ; 1.9,-6.15 -0.15,-6.15 -0.15,-5.85 1.9,-5.85 ; 1.9,-5.15 -0.15,-5.15 -0.15,-4.85 1.9,-4.85 ; 1.9,-4.15 -0.15,-4.15 -0.15,-3.85 1.9,-3.85 ; 1.9,-3.15 -0.15,-3.15 -0.15,-2.85 1.9,-2.85 ; 1.9,-2.15 -0.15,-2.15 -0.15,-1.85 1.9,-1.85 ; 1.9,-1.15 -0.15,-1.15 -0.15,-0.85 1.9,-0.85 ; 1.9,-0.15 -0.15,-0.15 -0.15,0.15 1.9,0.15 ; 3.1,-16.15 5.1,-16.15 5.1,-15.85 3.1,-15.85 ; 3.1,-15.15 5.1,-15.15 5.1,-14.85 3.1,-14.85 ; 3.1,-14.15 5.1,-14.15 5.1,-13.85 3.1,-13.85 ; 3.1,-13.15 5.1,-13.15 5.1,-12.85 3.1,-12.85 ; 3.1,-12.15 5.1,-12.15 5.1,-11.85 3.1,-11.85 ; 3.1,-11.15 5.1,-11.15 5.1,-10.85 3.1,-10.85 ; 3.1,-10.15 5.1,-10.15 5.1,-9.85 3.1,-9.85 ; 3.1,-9.15 5.1,-9.15 5.1,-8.85 3.1,-8.85 ; 3.1,-8.15 5.1,-8.15 5.1,-7.85 3.1,-7.85 ; 3.1,-7.15 5.1,-7.15 5.1,-6.85 3.1,-6.85 ; 3.1,-6.15 5.1,-6.15 5.1,-5.85 3.1,-5.85 ; 3.1,-5.15 5.1,-5.15 5.1,-4.85 3.1,-4.85 ; 3.1,-4.15 5.1,-4.15 5.1,-3.85 3.1,-3.85 ; 3.1,-3.15 5.1,-3.15 5.1,-2.85 3.1,-2.85 ; 3.1,-2.15 5.1,-2.15 5.1,-1.85 3.1,-1.85 ; 3.1,-1.15 5.1,-1.15 5.1,-0.85 3.1,-0.85 ; 3.1,-0.15 5.1,-0.15 5.1,0.15 3.1,0.15 ; 1.9,-16.5 3.1,-16.5 3.1,0.5 2.2,0.5 1.9,0.2 1.9,-16.5
  text "'.Designator'" at 3.105,-10.914 h0.72
Top Courtyard:
  lines w0.254: -1,-17 5.6,-17 5.6,1 -1,1 -1,-17
Top Designator:
  text ".Designator" at -5.318,-8.508 h1.52

## PinHeader_2x17_P1.00mm_Vertical [mm]
pads (34):
  rect 0.85x0.85 hole 0.5: 1(0,0)
  round 0.85 hole 0.5: 2(1,0) 3(0,-1) 4(1,-1) 5(0,-2) 6(1,-2) 7(0,-3) 8(1,-3) 9(0,-4) 10(1,-4) 11(0,-5) 12(1,-5) 13(0,-6) 14(1,-6) 15(0,-7) 16(1,-7) 17(0,-8) 18(1,-8) 19(0,-9) 20(1,-9) 21(0,-10) 22(1,-10) 23(0,-11) 24(1,-11) 25(0,-12) 26(1,-12) 27(0,-13) 28(1,-13) 29(0,-14) 30(1,-14) 31(0,-15) 32(1,-15) 33(0,-16) 34(1,-16)
F.SilkS:
  lines w0.254: -0.76,0 -0.76,0.735 0,0.735 ; -0.686,-0.735 -0.76,-0.735 -0.76,-16.61 -0.41,-16.61 ; 0.41,-16.61 0.59,-16.61 ; 1.41,-16.61 1.76,-16.61 1.76,0.61 1.41,0.61
Top Assembly:
  lines w0.254: -0.65,-16.5 1.65,-16.5 1.65,0.5 -0.075,0.5 -0.65,-0.075 -0.65,-16.5
  text "'.Designator'" at 1.34,-12.047 h1
Top Courtyard:
  lines w0.254: -1.15,-17 2.15,-17 2.15,1 -1.15,1 -1.15,-17
Top Designator:
  text ".Designator" at -7.118,-8.508 h1.52